# Altium footprint library Inductors.PcbLib: 3 footprints
Each footprint in its own frame and in the unit in brackets; x right, y up, seen from the top. Pads: shape width x height; smd on the part's side, far side on the other; paste and mask are expansions set on the pad; w line width, h text height; cw(c..) or ccw(c..) is an arc to the next point about the centre after c.
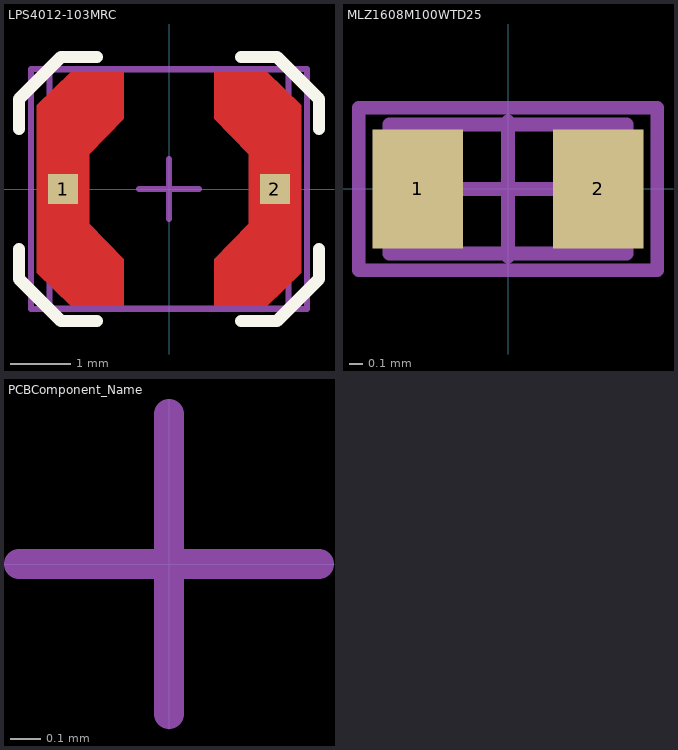
[diagram p0: the footprints below, top view; thin cyan lines are the x and y axes]

## LPS4012-103MRC [mm] "3.90x3.90x1.10mm"
height 1.1
pads (2):
  rect 0.5x0.5 smd paste-100 mask-100: 1(-1.765,0) 2(1.765,0)
Top Layer:
  region: -2.2,-1.395 -1.64,-1.945 -0.75,-1.945 -0.75,-1.17 -1.33,-0.575 -1.33,0.575 -0.75,1.17 -0.75,1.945 -1.64,1.945 -2.2,1.395
  region: 2.2,-1.395 1.64,-1.945 0.75,-1.945 0.75,-1.17 1.33,-0.575 1.33,0.575 0.75,1.17 0.75,1.945 1.64,1.945 2.2,1.395
Top Overlay:
  lines w0.2: -2.5,-1 -2.5,-1.5 -1.8,-2.2 -1.2,-2.2 ; -2.5,1 -2.5,1.5 -1.8,2.2 -1.2,2.2 ; 1.2,-2.2 1.8,-2.2 2.5,-1.5 2.5,-1 ; 1.2,2.2 1.8,2.2 2.5,1.5 2.5,1
Top Assembly:
  lines w0.1: -1.99,-1.99 1.99,-1.99 1.99,1.99 -1.99,1.99 -1.99,-1.99
Top Component Center:
  lines w0.1: -0.5,0 0.5,0 ; 0,-0.5 0,0.5
Top Component Outline:
  lines w0.1: -1.99,-1.99 -1.99,1.99 1.99,1.99 1.99,-1.99 -1.99,-1.99
Top Courtyard:
  lines w0.1: -2.3,-2 -2.3,2 2.3,2 2.3,-2 0,-2 -2.3,-2
Top Designator:
  text "''.Designator''" at 0,0 h2
Top Value:
  text "''.Comment''" at 0,0 h2
3D body "Coilcraft-LPS4012.step": height 1.2, standoff 0, extent -1.99,-1.99 1.99,1.99

## MLZ1608M100WTD25 [mm] "0603 chip inductor"
pads (2):
  rect 0.67x0.88 smd: 1(-0.665,0) 2(0.665,0)
Top Assembly:
  lines w0.1: -0.875,-0.475 -0.875,0.475 0.875,0.475 0.875,-0.475 -0.875,-0.475
Top Component Center:
  lines w0.1: -0.5,0 0.5,0 ; 0,-0.5 0,0.5
Top Component Outline:
  lines w0.1: -0.875,-0.475 -0.875,0.475 0.875,0.475 0.875,-0.475 -0.875,-0.475
Top Courtyard:
  lines w0.1: -1.1,-0.6 -1.1,0.6 1.1,0.6 1.1,-0.6 -1.1,-0.6
Top Designator:
  text "''.Designator''" at 0,0 h2
Top Value:
  text "''.Comment''" at 0,0 h2
3D body "INDC1608X09L.step": height 0.95, standoff 0, extent -0.875,-0.475 0.875,0.475

## PCBComponent_Name [mm] "Description goes here"
Top Component Center:
  lines w0.1: -0.5,0 0.5,0 ; 0,-0.5 0,0.5
Top Designator:
  text "''.Designator''" at 0,0 h2
Top Value:
  text "''.Comment''" at 0,0 h2